# EAGLE library part MK3DS1/3-3,81 (library untitled)
9-polige, dreistckige Reihenklemme im Raster 3.81mm Typ Phoenix MK3DS 1/3-3,81, Artikelnummer 1727748
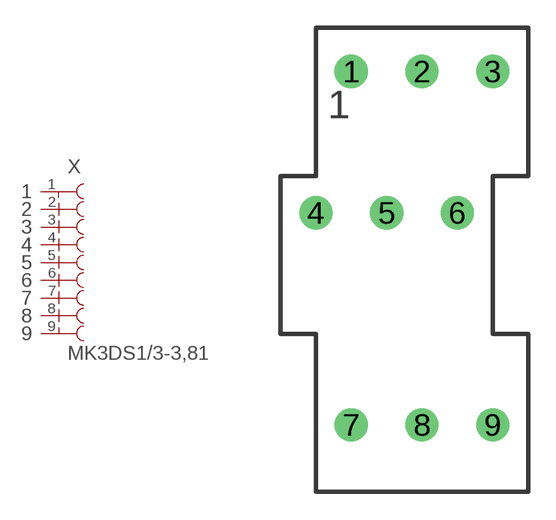
[diagram p1: symbol with the pads of MK3DS1/3; footprint MK3DS1/3]

Designator prefix X

## MK3DS1/3-3,81  [MK3DS1/3]
1  1  pas
2  2  pas
3  3  pas
4  4  pas
5  5  pas
6  6  pas
7  7  pas
8  8  pas
9  9  pas

## Footprint MK3DS1/3 (pad centres in mm)
9-polige, dreistckige Reihenklemme Phoenix MK3DS1/3
drill 1.194 pad 1.778 round: 1 0,19.05; 2 3.81,19.05; 3 7.62,19.05; 4 -1.905,11.43; 5 1.905,11.43; 6 5.715,11.43; 7 0,0; 8 3.81,0; 9 7.62,0